# EAGLE library part TMP102 (library 1_domaci)
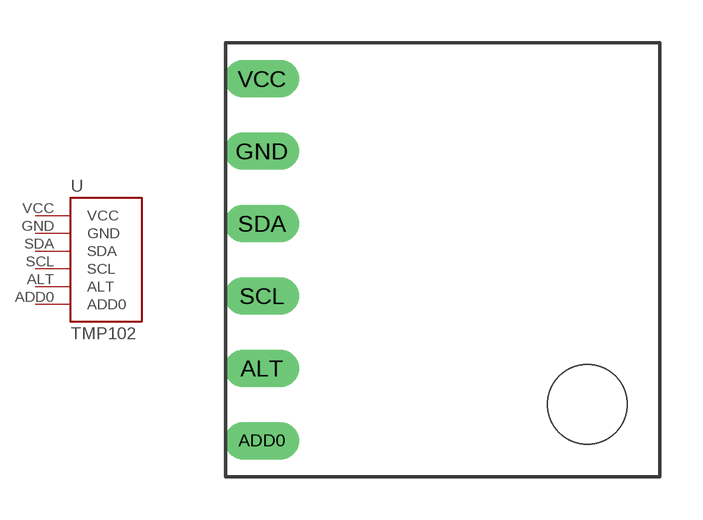
[diagram p13: symbol with the pads of TMP102; footprint TMP102]

Designator prefix U

## TMP102  [TMP102]
ADD0  ADD0
ALT  ALT
GND  GND  pwr
SCL  SCL
SDA  SDA
VCC  VCC  pwr

## Footprint TMP102 (pad centres in mm)
drill 0.8 long: ADD0 -6.35,-6.35; ALT -6.35,-3.81; GND -6.35,3.81; SCL -6.35,-1.27; SDA -6.35,1.27; VCC -6.35,6.35
hole 2.8 at 5.08,-5.08